# Altium schematic symbol library Schlib.SchLib: 2 symbols
Pins are listed as number, name and electrical type; pins without a type are passive.

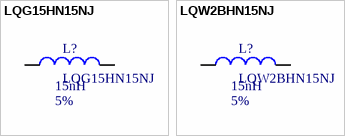
[diagram p0: symbols LQG15HN15NJ to LQW2BHN15NJ]

## LQG15HN15NJ
designator L?  value 15nH  Accuracy: 5%
15nH 5% 0402 SMD Chip inductor MURATA
footprint LC-0402_L
footprint LC-0402
pins: 1, 2

## LQW2BHN15NJ
designator L?  value 15nH  Accuracy: 5%
15nH 5% 0805 SMD Chip inductor MURATA
footprint LC-0805_L
footprint LC-0805
pins: 1, 2